# Altium footprint library Full_lib.PcbLib: 247 footprints (part 11 of 16)
Each footprint in its own frame and in the unit in brackets; x right, y up, seen from the top. Pads: shape width x height; smd on the part's side, far side on the other; paste and mask are expansions set on the pad; w line width, h text height; cw(c..) or ccw(c..) is an arc to the next point about the centre after c.
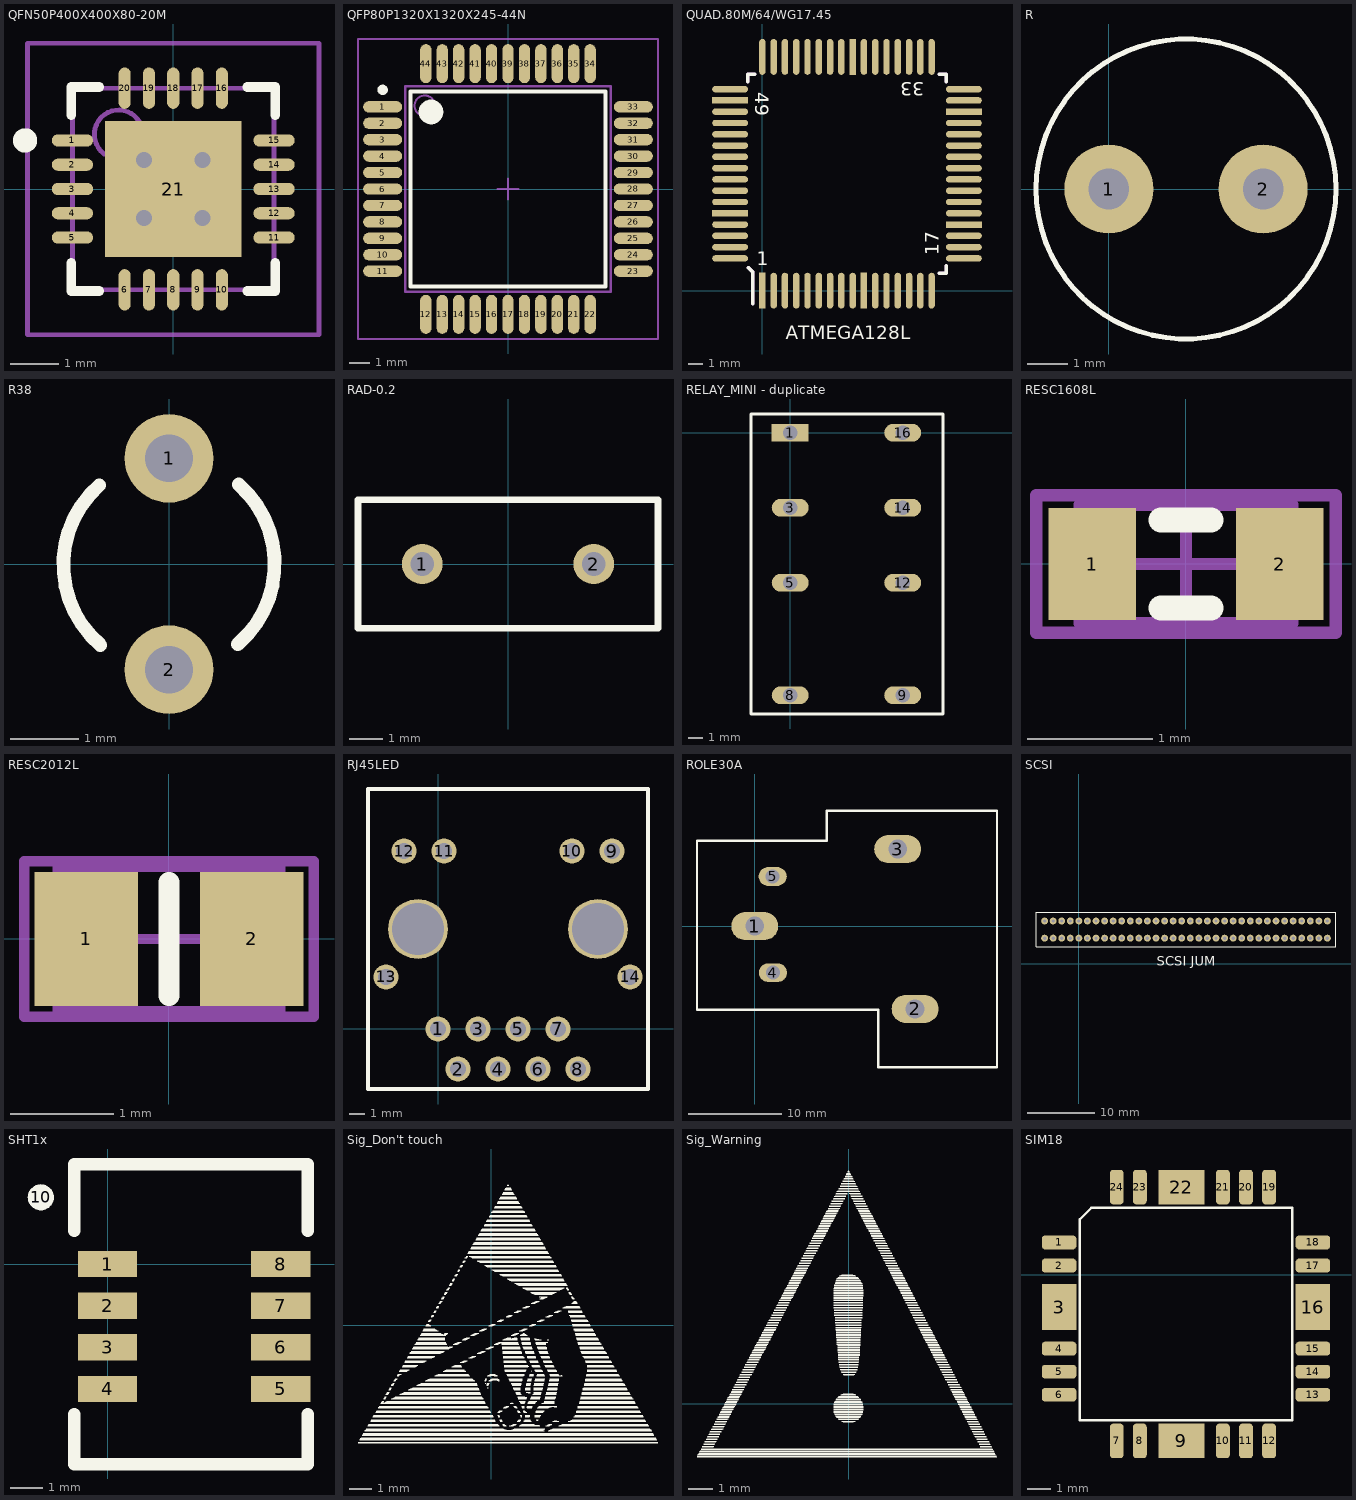
[diagram p10: the footprints below, top view; thin cyan lines are the x and y axes]

## QFN50P400X400X80-20M [mm] "QFN, 20-Leads, Body 4.2x4.2mm (max), Pitch 0.50mm, IPC Low Density"
height 0.8
pads (21):
  oval 0.85x0.25 smd: 1(-2.075,1) 2(-2.075,0.5) 3(-2.075,0) 4(-2.075,-0.5) 5(-2.075,-1) 11(2.075,-1) 12(2.075,-0.5) 13(2.075,0) 14(2.075,0.5) 15(2.075,1)
  oval 0.25x0.85 smd: 6(-1,-2.075) 7(-0.5,-2.075) 8(0,-2.075) 9(0.5,-2.075) 10(1,-2.075) 16(1,2.075) 17(0.5,2.075) 18(0,2.075) 19(-0.5,2.075) 20(-1,2.075)
  rect 2.8x2.8 smd: 21(0,0)
via 0.6,-0.6 diameter 0.66 hole 0.33
via -0.6,-0.6 diameter 0.66 hole 0.33
via 0.6,0.6 diameter 0.66 hole 0.33
via -0.6,0.6 diameter 0.66 hole 0.33
Top Overlay:
  circle w0.25: c-3.05,1 r0.125
  lines w0.2: -2.1,-1.525 -2.1,-2.1 -1.525,-2.1 ; -2.1,1.525 -2.1,2.1 -1.525,2.1 ; 1.525,-2.1 2.1,-2.1 2.1,-1.525 ; 1.525,2.1 2.1,2.1 2.1,1.525
Mechanical 13:
  circle w0.1: c-1.125,1.125 r0.5
  lines w0.1: -2.075,-2.075 2.075,-2.075 2.075,2.075 -2.075,2.075 -2.075,-2.075
Mechanical 15:
  lines w0.1: -0.5,0 0.5,0 ; 0,-0.5 0,0.5 ; -3,-3 3,-3 3,3 -3,3 -3,-3
3D body: height 0.8, standoff 0.01, extent -2.075,-2.075 2.075,2.075

## QFP80P1320X1320X245-44N [mm] "QFP, 44-Leads, Body 13.2x13.2mm (max), Pitch 0.80mm, IPC Medium Density"
height 2.45
pads (44):
  oval 1.9x0.55 smd: 1(-6.1,4) 2(-6.1,3.2) 3(-6.1,2.4) 4(-6.1,1.6) 5(-6.1,0.8) 6(-6.1,0) 7(-6.1,-0.8) 8(-6.1,-1.6) 9(-6.1,-2.4) 10(-6.1,-3.2) 11(-6.1,-4) 23(6.1,-4) 24(6.1,-3.2) 25(6.1,-2.4) 26(6.1,-1.6) 27(6.1,-0.8) 28(6.1,0) 29(6.1,0.8) 30(6.1,1.6) 31(6.1,2.4) 32(6.1,3.2) 33(6.1,4)
  oval 0.55x1.9 smd: 12(-4,-6.1) 13(-3.2,-6.1) 14(-2.4,-6.1) 15(-1.6,-6.1) 16(-0.8,-6.1) 17(0,-6.1) 18(0.8,-6.1) 19(1.6,-6.1) 20(2.4,-6.1) 21(3.2,-6.1) 22(4,-6.1) 34(4,6.1) 35(3.2,6.1) 36(2.4,6.1) 37(1.6,6.1) 38(0.8,6.1) 39(0,6.1) 40(-0.8,6.1) 41(-1.6,6.1) 42(-2.4,6.1) 43(-3.2,6.1) 44(-4,6.1)
Top Overlay:
  circle w0.25: c-6.1,4.825 r0.125
  circle w0.6: c-3.75,3.75 r0.3
  lines w0.2: -4.75,-4.75 -4.75,4.75 4.75,4.75 4.75,-4.75 -4.75,-4.75
Mechanical 13:
  circle w0.1: c-4.05,4.05 r0.5
  lines w0.1: -5,-5 -5,5 5,5 5,-5 -5,-5
Mechanical 15:
  lines w0.1: -0.5,0 0.5,0 ; 0,-0.5 0,0.5 ; -7.3,-7.3 -7.3,7.3 7.3,7.3 7.3,-7.3 -7.3,-7.3
3D body: height 2.45, standoff 0.25, extent -5,-5 5,5

## QUAD.80M/64/WG17.45 [mil]
pads (64):
  rect 18x100 smd: 1(0,0) 10(283.5,0) 40(252,652.5)
  oval 18x100 smd: 2(31.5,0) 3(63,0) 4(94.5,0) 5(126,0) 6(157.5,0) 7(189,0) 8(220.5,0) 9(252,0) 11(315,0) 12(346.5,0) 13(378,0) 14(409.5,0) 15(441,0) 16(472.5,0) 33(472.5,652.5) 34(441,652.5) 35(409.5,652.5) 36(378,652.5) 37(346.5,652.5) 38(315,652.5) 39(283.5,652.5) 41(220.5,652.5) 42(189,652.5) 43(157.5,652.5) 44(126,652.5) 45(94.5,652.5) 46(63,652.5) 47(31.5,652.5) 48(0,652.5)
  oval 100x18 smd: 17(562.5,90) 18(562.5,121.5) 19(562.5,153) 21(562.5,216) 22(562.5,247.5) 23(562.5,279) 24(562.5,310.5) 25(562.5,342) 26(562.5,373.5) 27(562.5,405) 28(562.5,436.5) 29(562.5,468) 31(562.5,531) 32(562.5,562.5) 49(-90,562.5) 51(-90,499.5) 52(-90,468) 53(-90,436.5) 54(-90,405) 55(-90,373.5) 56(-90,342) 57(-90,310.5) 58(-90,279) 59(-90,247.5) 61(-90,184.5) 62(-90,153) 63(-90,121.5) 64(-90,90)
  rect 100x18 smd: 20(562.5,184.5) 30(562.5,499.5) 50(-90,531) 60(-90,216)
Top Overlay:
  lines w10: -41.3,583.7 -41.3,603.7 -21.3,603.7 ; -38.8,63.7 -26.3,51.2 -26.3,-36.3 ; 493.7,48.7 513.7,48.7 513.7,68.7 ; 493.7,603.7 513.7,603.7 513.7,583.7
  text "1" at -15.18,70.58 h37.5
  text "17" at 491.83,98.42 h37.5
  text "33" at 451.48,581.83 h37.5
  text "49" at -19.43,554 h37.5
  text "49" at -19.43,554 h37.5
  text "33" at 451.48,581.83 h37.5
  text "17" at 491.83,98.42 h37.5
  text "1" at -15.18,70.58 h37.5
  text "ATMEGA128L" at 65,-135 h37.5
Mechanical 1:
  lines w10: -41.3,583.7 -41.3,603.7 -21.3,603.7 ; -38.8,63.7 -26.3,51.2 -26.3,-36.3 ; 493.7,48.7 513.7,48.7 513.7,68.7 ; 493.7,603.7 513.7,603.7 513.7,583.7
  text "1" at -15.18,70.58 h37.5
  text "17" at 491.83,98.42 h37.5
  text "33" at 451.48,581.83 h37.5
  text "49" at -19.43,554 h37.5
  text "49" at -19.43,554 h37.5
  text "33" at 451.48,581.83 h37.5
  text "17" at 491.83,98.42 h37.5
  text "1" at -15.18,70.58 h37.5

## R [mm]
pads (2):
  round 2.2 hole 1: 1(0,0) 2(3.81,0)
Top Overlay:
  circle w0.127: c1.905,0 r3.703

## R38 [mm] "Crystal, Thru-Hole; 2 Leads; Body 3.1 x 8.2 mm (Dia.xH)"
height 8.2
pads (2):
  round 1.3 hole 0.7: 1(0,1.55) 2(0,-1.55)
Top Overlay:
  lines w0.2: -1.022,1.155 ccw(c0,-0.01) -1.006,-1.189 ; 1.006,-1.179 ccw(c0,0) 1.022,1.165

## RAD-0.2 [mm] "Radial Cap, Thru-Hole; 2 Leads; 0.2 in Pin Spacing"
pads (2):
  round 1.2 hole 0.7: 1(-2.54,0) 2(2.54,0)
Top Overlay:
  lines w0.2: -4.445,-1.905 4.445,-1.905 4.445,1.905 -4.445,1.905 -4.445,-1.905

## RELAY_MINI - duplicate [mm]
pads (8):
  rect 2.5x1.2 hole 1: 1(0,0)
  oval 2.5x1.2 hole 1: 3(0,-5.08) 5(0,-10.16) 8(0,-17.78) 9(7.62,-17.78) 12(7.62,-10.16) 14(7.62,-5.08) 16(7.62,0)
Top Overlay:
  lines w0.2: 4.445,1.27 10.363,1.27 10.363,-19.05 -2.667,-19.05 -2.667,1.27 4.521,1.27

## RESC1608L [mm] "Chip Resistor, Body 1.6x0.8mm, IPC High Density"
height 0.9
pads (2):
  rect 0.7x0.9 smd: 1(-0.75,0) 2(0.75,0)
Top Overlay:
  lines w0.2: -0.2,-0.35 0.2,-0.35 ; -0.2,0.35 0.2,0.35
Mechanical 13:
  lines w0.1: -0.85,-0.475 0.85,-0.475 0.85,0.475 -0.85,0.475 -0.85,-0.475
Mechanical 15:
  lines w0.1: -0.475,0 0.475,0 ; 0,-0.475 0,0.475 ; -1.2,-0.55 1.2,-0.55 1.2,0.55 -1.2,0.55 -1.2,-0.55
3D body: height 0.9, standoff 0, extent -0.85,-0.475 0.85,0.475

## RESC2012L [mm] "Chip Resistor, Body 2.0x1.3mm, IPC High Density"
height 2.54
pads (2):
  rect 1x1.3 smd: 1(-0.8,0) 2(0.8,0)
Top Overlay:
  lines w0.2: 0,-0.55 0,0.55
Mechanical 13:
  lines w0.1: -1.075,-0.7 1.075,-0.7 1.075,0.7 -1.075,0.7 -1.075,-0.7
Mechanical 15:
  lines w0.1: -0.5,0 0.5,0 ; 0,-0.5 0,0.5 ; -1.4,-0.75 1.4,-0.75 1.4,0.75 -1.4,0.75 -1.4,-0.75
3D body: height 2.54, standoff 0, extent -1.075,-0.7 1.075,0.7

## RJ45LED [mil]
pads (16):
  round 62 hole 40: 1(0,0) 2(50,-100) 3(100,0) 4(150,-100) 5(200,0) 6(250,-100) 7(300,0) 8(350,-100) 9(435,445) 10(335,445) 11(15,445) 12(-85,445) 13(-130,130) 14(480,130)
  round 150 hole 130: ""(-50,250) ""(400,250)
Top Overlay:
  lines w10: -175,-150 525,-150 525,600 -175,600 -175,125 -175,-150

## ROLE30A [mm] "Relay"
height 23
pads (5):
  oval 5x3 hole 2: 1(0,0) 2(17.069,-8.814) 3(15.215,8.204)
  oval 3x2 hole 1.5: 4(1.93,-4.953) 5(1.905,5.283)
Top Overlay:
  lines w0.254: -6.147,-8.915 -6.147,9.068 4.826,9.068 7.645,9.068 7.645,12.294 25.781,12.294 25.781,-15.037 13.157,-15.037 13.157,-8.915 -4.572,-8.915 -6.147,-8.915

## SCSI [mil]
pads (68):
  round 40 hole 20: 1(-200,250) 2(-200,150) 3(-150,250) 4(-150,150) 5(-100,250) 6(-100,150) 7(-50,250) 8(-50,150) 9(0,250) 10(0,150) 11(50,250) 12(50,150) 13(100,250) 14(100,150) 15(150,250) 16(150,150) 17(200,250) 18(200,150) 19(250,250) 20(250,150) 21(300,250) 22(300,150) 23(350,250) 24(350,150) 25(400,250) 26(400,150) 27(450,250) 28(450,150) 29(500,250) 30(500,150) 31(550,250) 32(550,150) 33(600,250) 34(600,150) 35(650,250) 36(650,150) 37(700,250) 38(700,150) 39(750,250) 40(750,150) 41(800,250) 42(800,150) 43(850,250) 44(850,150) 45(900,250) 46(900,150) 47(950,250) 48(950,150) 49(1000,250) 50(1000,150) 51(1050,250) 52(1050,150) 53(1100,250) 54(1100,150) 55(1150,250) 56(1150,150) 57(1200,250) 58(1200,150) 59(1250,250) 60(1250,150) 61(1300,250) 62(1300,150) 63(1350,250) 64(1350,150) 65(1400,250) 66(1400,150) 67(1450,250) 68(1450,150)
Top Overlay:
  lines w5: -250,100 -250,300 1500,300 1500,100 -250,100
  text "SCSI JUM" at 455,-10 h56.25

## SHT1x [mm] "Temperature and humidity sensor"
height 1
pads (9):
  rect 1.8x0.8 smd: 1(0,0) 2(0,-1.27) 3(0,-2.54) 4(0,-3.81) 5(5.28,-3.81) 6(5.28,-2.54) 7(5.28,-1.27) 8(5.28,0)
  round 0.8 on Top Overlay: 10(-2.032,2.032)
Top Overlay:
  lines w0.381: -1.016,-4.572 -1.016,-6.096 6.096,-6.096 6.096,-4.572 ; -1.016,1.016 -1.016,3.048 6.096,3.048 6.096,1.016

## Sig_Don't touch [mm]
Top Overlay:
  drawing of 1681 lines, arcs and shapes, not listed

## Sig_Warning [mm]
Top Overlay:
  drawing of 1078 lines, arcs and shapes, not listed

## SIM18 [mm] "SIM18"
pads (24):
  rrect50% 1.5x0.6 smd: 1(2,1.4) 2(2,0.4) 4(2,-3.2) 5(2,-4.2) 6(2,-5.2) 13(13,-5.2) 14(13,-4.2) 15(13,-3.2) 17(13,0.4) 18(13,1.4)
  rect 1.5x2 smd: 3(2,-1.4) 16(13,-1.4)
  rrect50% 0.6x1.5 smd: 7(4.5,-7.2) 8(5.5,-7.2) 10(9.1,-7.2) 11(10.1,-7.2) 12(11.1,-7.2) 19(11.1,3.8) 20(10.1,3.8) 21(9.1,3.8) 23(5.5,3.8) 24(4.5,3.8)
  rect 2x1.5 smd: 9(7.3,-7.2) 22(7.3,3.8)
Top Overlay:
  lines w0.1: 2.9,2.4 3.2,2.7 3.4,2.9 12.1,2.9 12.1,-6.3 2.9,-6.3 2.9,2.4 ; 2.9,2.4 2.9,2.4